# Altium integrated library Microchip PIC10.IntLib: 94 symbols (part 1 of 3)
Pins are listed as number, name and electrical type; pins without a type are passive.

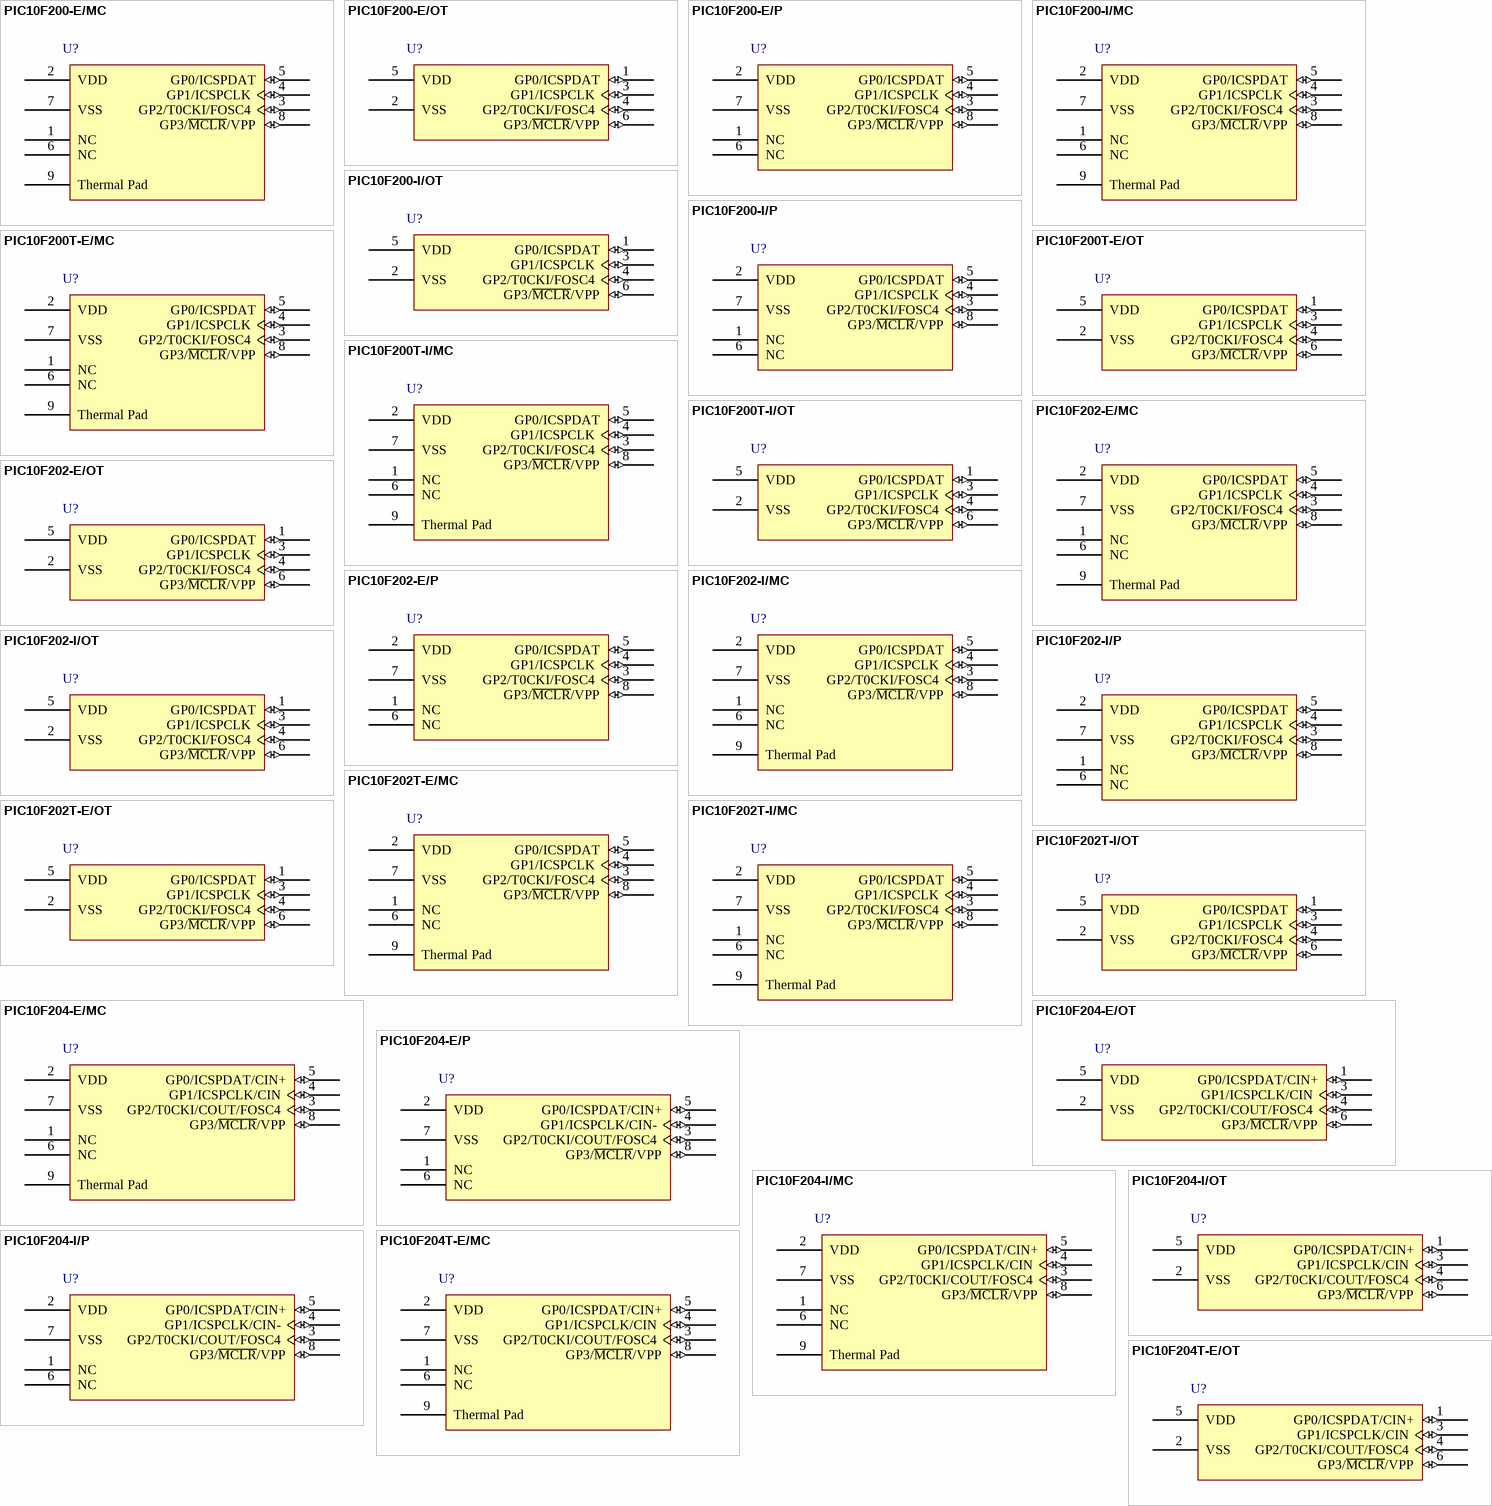
[diagram p0: symbols PIC10F200-E/MC to PIC10F204T-E/OT]

## PIC10F200-E/MC
designator U?
8-bit Flash Microcontroller, 256 (x12-Bit words) Program Memory, 16 Bytes Data Memory, 8-Pin DFN, Extended Temperature; Manufacturer: Microchip; PartNumber: PIC10F200-E/MC; DatasheetVersion: revD, Apr-2007; PackageVersion: C04-123C, 12/2012; PackageReference: DFN-MC8; PackageDescription: 8-Lead Plastic Dual Flat, 2 x 3 mm Body, 0.5 mm Pitch; ComponentLink1Description: Manufacturer URL; ComponentLink1URL: http://www.microchip.com/; ComponentLink2Description: Datasheet; ComponentLink2URL: http://ww1.microchip.com/downloads/en/DeviceDoc/41239D.pdf; ComponentLink3Description: Package Specification; ComponentLink3URL: http://www.microchip.com/stellent/groups/techpub_sg/documents/packagingspec/en012702.pdf
footprint MCHP-DFN-MC8_V (SON, 8-Leads, Body 3x2mm, Pitch 0.5mm, Thermal Pad 1.45x1.75mm)
pins: 1 NC, 2 VDD (power), 3 GP2/T0CKI/FOSC4 (io), 4 GP1/ICSPCLK (io), 5 GP0/ICSPDAT (io), 6 NC, 7 VSS (power), 8 GP3/~{MCLR}/VPP (io), 9 Thermal Pad

## PIC10F200-E/OT
designator U?
8-bit Flash Microcontroller, 256 (x12-Bit words) Program Memory, 16 Bytes Data Memory, 6-Pin SOT-23, Extended Temperature; Manufacturer: Microchip; PartNumber: PIC10F200-E/OT; DatasheetVersion: revD, Apr-2007; PackageVersion: C04-028B, 12/2012; PackageReference: SOT-23-OT6; PackageDescription: 6-Lead Plastic Small Outline Transistor, 2.9 x 1.55 mm Body, 0.95 mm Pitch; ComponentLink1Description: Manufacturer URL; ComponentLink1URL: http://www.microchip.com/; ComponentLink2Description: Datasheet; ComponentLink2URL: http://ww1.microchip.com/downloads/en/DeviceDoc/41239D.pdf; ComponentLink3Description: Package Specification; ComponentLink3URL: http://www.microchip.com/stellent/groups/techpub_sg/documents/packagingspec/en012702.pdf
footprint MCHP-SOT-23-OT6_N (SOT23, 6-Leads, Body 2.9x1.55mm, Pitch 0.95mm, IPC Medium Density)
footprint MCHP-SOT-23-OT6_L (SOT23, 6-Leads, Body 2.9x1.55mm, Pitch 0.95mm, IPC High Density)
footprint MCHP-SOT-23-OT6_M (SOT23, 6-Leads, Body 2.9x1.55mm, Pitch 0.95mm, IPC Low Density)
pins: 1 GP0/ICSPDAT (io), 2 VSS (power), 3 GP1/ICSPCLK (io), 4 GP2/T0CKI/FOSC4 (io), 5 VDD (power), 6 GP3/~{MCLR}/VPP (io)

## PIC10F200-E/P
designator U?
8-bit Flash Microcontroller, 256 (x12-Bit words) Program Memory, 16 Bytes Data Memory, 8-Pin PDIP, Extended Temperature; Manufacturer: Microchip; PartNumber: PIC10F200-E/P; DatasheetVersion: revD, Apr-2007; PackageVersion: revBB, Aug-2009; PackageReference: PDIP300-P8; PackageDescription: 8-Lead Plastic Dual In-Line (P) - 300 mil Body [PDIP]; Code_JEDEC: MS-001; ComponentLink1Description: Manufacturer URL; ComponentLink1URL: http://www.microchip.com/; ComponentLink2Description: Datasheet; ComponentLink2URL: http://ww1.microchip.com/downloads/en/DeviceDoc/41239D.pdf; ComponentLink3Description: Package Specification; ComponentLink3URL: http://www.microchip.com/stellent/groups/techpub_sg/documents/packagingspec/en012702.pdf
footprint PDIP300-P8 (DIP, 8-Leads, Row Spacing 7.62mm, Pitch 2.54mm, Body 9.5x6.6mm)
pins: 1 NC, 2 VDD (power), 3 GP2/T0CKI/FOSC4 (io), 4 GP1/ICSPCLK (io), 5 GP0/ICSPDAT (io), 6 NC, 7 VSS (power), 8 GP3/~{MCLR}/VPP (io)

## PIC10F200-I/MC
designator U?
8-bit Flash Microcontroller, 256 (x12-Bit words) Program Memory, 16 Bytes Data Memory, 8-Pin DFN, Industrial Temperature; Manufacturer: Microchip; PartNumber: PIC10F200-I/MC; DatasheetVersion: revD, Apr-2007; PackageVersion: C04-123C, 12/2012; PackageReference: DFN-MC8; PackageDescription: 8-Lead Plastic Dual Flat, 2 x 3 mm Body, 0.5 mm Pitch; ComponentLink1Description: Manufacturer URL; ComponentLink1URL: http://www.microchip.com/; ComponentLink2Description: Datasheet; ComponentLink2URL: http://ww1.microchip.com/downloads/en/DeviceDoc/41239D.pdf; ComponentLink3Description: Package Specification; ComponentLink3URL: http://www.microchip.com/stellent/groups/techpub_sg/documents/packagingspec/en012702.pdf
footprint MCHP-DFN-MC8_V (SON, 8-Leads, Body 3x2mm, Pitch 0.5mm, Thermal Pad 1.45x1.75mm)
pins: 1 NC, 2 VDD (power), 3 GP2/T0CKI/FOSC4 (io), 4 GP1/ICSPCLK (io), 5 GP0/ICSPDAT (io), 6 NC, 7 VSS (power), 8 GP3/~{MCLR}/VPP (io), 9 Thermal Pad

## PIC10F200-I/OT
designator U?
8-bit Flash Microcontroller, 256 (x12-Bit words) Program Memory, 16 Bytes Data Memory, 6-Pin SOT-23, Industrial Temperature; Manufacturer: Microchip; PartNumber: PIC10F200-I/OT; DatasheetVersion: revD, Apr-2007; PackageVersion: C04-028B, 12/2012; PackageReference: SOT-23-OT6; PackageDescription: 6-Lead Plastic Small Outline Transistor, 2.9 x 1.55 mm Body, 0.95 mm Pitch; ComponentLink1Description: Manufacturer URL; ComponentLink1URL: http://www.microchip.com/; ComponentLink2Description: Datasheet; ComponentLink2URL: http://ww1.microchip.com/downloads/en/DeviceDoc/41239D.pdf; ComponentLink3Description: Package Specification; ComponentLink3URL: http://www.microchip.com/stellent/groups/techpub_sg/documents/packagingspec/en012702.pdf
footprint MCHP-SOT-23-OT6_N (SOT23, 6-Leads, Body 2.9x1.55mm, Pitch 0.95mm, IPC Medium Density)
footprint MCHP-SOT-23-OT6_L (SOT23, 6-Leads, Body 2.9x1.55mm, Pitch 0.95mm, IPC High Density)
footprint MCHP-SOT-23-OT6_M (SOT23, 6-Leads, Body 2.9x1.55mm, Pitch 0.95mm, IPC Low Density)
pins: 1 GP0/ICSPDAT (io), 2 VSS (power), 3 GP1/ICSPCLK (io), 4 GP2/T0CKI/FOSC4 (io), 5 VDD (power), 6 GP3/~{MCLR}/VPP (io)

## PIC10F200-I/P
designator U?
8-bit Flash Microcontroller, 256 (x12-Bit words) Program Memory, 16 Bytes Data Memory, 8-Pin PDIP, Industrial Temperature; Manufacturer: Microchip; PartNumber: PIC10F200-I/P; DatasheetVersion: revD, Apr-2007; PackageVersion: revBB, Aug-2009; PackageReference: PDIP300-P8; PackageDescription: 8-Lead Plastic Dual In-Line (P) - 300 mil Body [PDIP]; Code_JEDEC: MS-001; ComponentLink1Description: Manufacturer URL; ComponentLink1URL: http://www.microchip.com/; ComponentLink2Description: Datasheet; ComponentLink2URL: http://ww1.microchip.com/downloads/en/DeviceDoc/41239D.pdf; ComponentLink3Description: Package Specification; ComponentLink3URL: http://www.microchip.com/stellent/groups/techpub_sg/documents/packagingspec/en012702.pdf
footprint PDIP300-P8 (DIP, 8-Leads, Row Spacing 7.62mm, Pitch 2.54mm, Body 9.5x6.6mm)
pins: 1 NC, 2 VDD (power), 3 GP2/T0CKI/FOSC4 (io), 4 GP1/ICSPCLK (io), 5 GP0/ICSPDAT (io), 6 NC, 7 VSS (power), 8 GP3/~{MCLR}/VPP (io)

## PIC10F200T-E/MC
designator U?
8-bit Flash Microcontroller, 256 (x12-Bit words) Program Memory, 16 Bytes Data Memory, 8-Pin DFN, Extended Temperature, Tape and Reel; Manufacturer: Microchip; PartNumber: PIC10F200T-E/MC; DatasheetVersion: revD, Apr-2007; PackageVersion: C04-123C, 12/2012; PackageReference: DFN-MC8; PackageDescription: 8-Lead Plastic Dual Flat, 2 x 3 mm Body, 0.5 mm Pitch; ComponentLink1Description: Manufacturer URL; ComponentLink1URL: http://www.microchip.com/; ComponentLink2Description: Datasheet; ComponentLink2URL: http://ww1.microchip.com/downloads/en/DeviceDoc/41239D.pdf; ComponentLink3Description: Package Specification; ComponentLink3URL: http://www.microchip.com/stellent/groups/techpub_sg/documents/packagingspec/en012702.pdf
footprint MCHP-DFN-MC8_V (SON, 8-Leads, Body 3x2mm, Pitch 0.5mm, Thermal Pad 1.45x1.75mm)
pins: 1 NC, 2 VDD (power), 3 GP2/T0CKI/FOSC4 (io), 4 GP1/ICSPCLK (io), 5 GP0/ICSPDAT (io), 6 NC, 7 VSS (power), 8 GP3/~{MCLR}/VPP (io), 9 Thermal Pad

## PIC10F200T-E/OT
designator U?
8-bit Flash Microcontroller, 256 (x12-Bit words) Program Memory, 16 Bytes Data Memory, 6-Pin SOT-23, Extended Temperature, Tape and Reel; Manufacturer: Microchip; PartNumber: PIC10F200T-E/OT; DatasheetVersion: revD, Apr-2007; PackageVersion: C04-028B, 12/2012; PackageReference: SOT-23-OT6; PackageDescription: 6-Lead Plastic Small Outline Transistor, 2.9 x 1.55 mm Body, 0.95 mm Pitch; ComponentLink1Description: Manufacturer URL; ComponentLink1URL: http://www.microchip.com/; ComponentLink2Description: Datasheet; ComponentLink2URL: http://ww1.microchip.com/downloads/en/DeviceDoc/41239D.pdf; ComponentLink3Description: Package Specification; ComponentLink3URL: http://www.microchip.com/stellent/groups/techpub_sg/documents/packagingspec/en012702.pdf
footprint MCHP-SOT-23-OT6_N (SOT23, 6-Leads, Body 2.9x1.55mm, Pitch 0.95mm, IPC Medium Density)
footprint MCHP-SOT-23-OT6_L (SOT23, 6-Leads, Body 2.9x1.55mm, Pitch 0.95mm, IPC High Density)
footprint MCHP-SOT-23-OT6_M (SOT23, 6-Leads, Body 2.9x1.55mm, Pitch 0.95mm, IPC Low Density)
pins: 1 GP0/ICSPDAT (io), 2 VSS (power), 3 GP1/ICSPCLK (io), 4 GP2/T0CKI/FOSC4 (io), 5 VDD (power), 6 GP3/~{MCLR}/VPP (io)

## PIC10F200T-I/MC
designator U?
8-bit Flash Microcontroller, 256 (x12-Bit words) Program Memory, 16 Bytes Data Memory, 8-Pin DFN, Industrial Temperature, Tape and Reel; Manufacturer: Microchip; PartNumber: PIC10F200T-I/MC; DatasheetVersion: revD, Apr-2007; PackageVersion: C04-123C, 12/2012; PackageReference: DFN-MC8; PackageDescription: 8-Lead Plastic Dual Flat, 2 x 3 mm Body, 0.5 mm Pitch; ComponentLink1Description: Manufacturer URL; ComponentLink1URL: http://www.microchip.com/; ComponentLink2Description: Datasheet; ComponentLink2URL: http://ww1.microchip.com/downloads/en/DeviceDoc/41239D.pdf; ComponentLink3Description: Package Specification; ComponentLink3URL: http://www.microchip.com/stellent/groups/techpub_sg/documents/packagingspec/en012702.pdf
footprint MCHP-DFN-MC8_V (SON, 8-Leads, Body 3x2mm, Pitch 0.5mm, Thermal Pad 1.45x1.75mm)
pins: 1 NC, 2 VDD (power), 3 GP2/T0CKI/FOSC4 (io), 4 GP1/ICSPCLK (io), 5 GP0/ICSPDAT (io), 6 NC, 7 VSS (power), 8 GP3/~{MCLR}/VPP (io), 9 Thermal Pad

## PIC10F200T-I/OT
designator U?
8-bit Flash Microcontroller, 256 (x12-Bit words) Program Memory, 16 Bytes Data Memory, 6-Pin SOT-23, Industrial Temperature, Tape and Reel; Manufacturer: Microchip; PartNumber: PIC10F200T-I/OT; DatasheetVersion: revD, Apr-2007; PackageVersion: C04-028B, 12/2012; PackageReference: SOT-23-OT6; PackageDescription: 6-Lead Plastic Small Outline Transistor, 2.9 x 1.55 mm Body, 0.95 mm Pitch; ComponentLink1Description: Manufacturer URL; ComponentLink1URL: http://www.microchip.com/; ComponentLink2Description: Datasheet; ComponentLink2URL: http://ww1.microchip.com/downloads/en/DeviceDoc/41239D.pdf; ComponentLink3Description: Package Specification; ComponentLink3URL: http://www.microchip.com/stellent/groups/techpub_sg/documents/packagingspec/en012702.pdf
footprint MCHP-SOT-23-OT6_N (SOT23, 6-Leads, Body 2.9x1.55mm, Pitch 0.95mm, IPC Medium Density)
footprint MCHP-SOT-23-OT6_L (SOT23, 6-Leads, Body 2.9x1.55mm, Pitch 0.95mm, IPC High Density)
footprint MCHP-SOT-23-OT6_M (SOT23, 6-Leads, Body 2.9x1.55mm, Pitch 0.95mm, IPC Low Density)
pins: 1 GP0/ICSPDAT (io), 2 VSS (power), 3 GP1/ICSPCLK (io), 4 GP2/T0CKI/FOSC4 (io), 5 VDD (power), 6 GP3/~{MCLR}/VPP (io)

## PIC10F202-E/MC
designator U?
8-bit Flash Microcontroller, 512 (x12-Bit words) Program Memory, 24 Bytes Data Memory, 8-Pin DFN, Extended Temperature; Manufacturer: Microchip; PartNumber: PIC10F202-E/MC; DatasheetVersion: revD, Apr-2007; PackageVersion: C04-123C, 12/2012; PackageReference: DFN-MC8; PackageDescription: 8-Lead Plastic Dual Flat, 2 x 3 mm Body, 0.5 mm Pitch; ComponentLink1Description: Manufacturer URL; ComponentLink1URL: http://www.microchip.com/; ComponentLink2Description: Datasheet; ComponentLink2URL: http://ww1.microchip.com/downloads/en/DeviceDoc/41239D.pdf; ComponentLink3Description: Package Specification; ComponentLink3URL: http://www.microchip.com/stellent/groups/techpub_sg/documents/packagingspec/en012702.pdf
footprint MCHP-DFN-MC8_V (SON, 8-Leads, Body 3x2mm, Pitch 0.5mm, Thermal Pad 1.45x1.75mm)
pins: 1 NC, 2 VDD (power), 3 GP2/T0CKI/FOSC4 (io), 4 GP1/ICSPCLK (io), 5 GP0/ICSPDAT (io), 6 NC, 7 VSS (power), 8 GP3/~{MCLR}/VPP (io), 9 Thermal Pad

## PIC10F202-E/OT
designator U?
8-bit Flash Microcontroller, 512 (x12-Bit words) Program Memory, 24 Bytes Data Memory, 6-Pin SOT-23, Extended Temperature; Manufacturer: Microchip; PartNumber: PIC10F202-E/OT; DatasheetVersion: revD, Apr-2007; PackageVersion: C04-028B, 12/2012; PackageReference: SOT-23-OT6; PackageDescription: 6-Lead Plastic Small Outline Transistor, 2.9 x 1.55 mm Body, 0.95 mm Pitch; ComponentLink1Description: Manufacturer URL; ComponentLink1URL: http://www.microchip.com/; ComponentLink2Description: Datasheet; ComponentLink2URL: http://ww1.microchip.com/downloads/en/DeviceDoc/41239D.pdf; ComponentLink3Description: Package Specification; ComponentLink3URL: http://www.microchip.com/stellent/groups/techpub_sg/documents/packagingspec/en012702.pdf
footprint MCHP-SOT-23-OT6_N (SOT23, 6-Leads, Body 2.9x1.55mm, Pitch 0.95mm, IPC Medium Density)
footprint MCHP-SOT-23-OT6_L (SOT23, 6-Leads, Body 2.9x1.55mm, Pitch 0.95mm, IPC High Density)
footprint MCHP-SOT-23-OT6_M (SOT23, 6-Leads, Body 2.9x1.55mm, Pitch 0.95mm, IPC Low Density)
pins: 1 GP0/ICSPDAT (io), 2 VSS (power), 3 GP1/ICSPCLK (io), 4 GP2/T0CKI/FOSC4 (io), 5 VDD (power), 6 GP3/~{MCLR}/VPP (io)

## PIC10F202-E/P
designator U?
8-bit Flash Microcontroller, 512 (x12-Bit words) Program Memory, 24 Bytes Data Memory, 8-Pin PDIP, Extended Temperature; Manufacturer: Microchip; PartNumber: PIC10F202-E/P; DatasheetVersion: revD, Apr-2007; PackageVersion: revBB, Aug-2009; PackageReference: PDIP300-P8; PackageDescription: 8-Lead Plastic Dual In-Line (P) - 300 mil Body [PDIP]; Code_JEDEC: MS-001; ComponentLink1Description: Manufacturer URL; ComponentLink1URL: http://www.microchip.com/; ComponentLink2Description: Datasheet; ComponentLink2URL: http://ww1.microchip.com/downloads/en/DeviceDoc/41239D.pdf; ComponentLink3Description: Package Specification; ComponentLink3URL: http://www.microchip.com/stellent/groups/techpub_sg/documents/packagingspec/en012702.pdf
footprint PDIP300-P8 (DIP, 8-Leads, Row Spacing 7.62mm, Pitch 2.54mm, Body 9.5x6.6mm)
pins: 1 NC, 2 VDD (power), 3 GP2/T0CKI/FOSC4 (io), 4 GP1/ICSPCLK (io), 5 GP0/ICSPDAT (io), 6 NC, 7 VSS (power), 8 GP3/~{MCLR}/VPP (io)

## PIC10F202-I/MC
designator U?
8-bit Flash Microcontroller, 512 (x12-Bit words) Program Memory, 24 Bytes Data Memory, 8-Pin DFN, Industrial Temperature; Manufacturer: Microchip; PartNumber: PIC10F202-I/MC; DatasheetVersion: revD, Apr-2007; PackageVersion: C04-123C, 12/2012; PackageReference: DFN-MC8; PackageDescription: 8-Lead Plastic Dual Flat, 2 x 3 mm Body, 0.5 mm Pitch; ComponentLink1Description: Manufacturer URL; ComponentLink1URL: http://www.microchip.com/; ComponentLink2Description: Datasheet; ComponentLink2URL: http://ww1.microchip.com/downloads/en/DeviceDoc/41239D.pdf; ComponentLink3Description: Package Specification; ComponentLink3URL: http://www.microchip.com/stellent/groups/techpub_sg/documents/packagingspec/en012702.pdf
footprint MCHP-DFN-MC8_V (SON, 8-Leads, Body 3x2mm, Pitch 0.5mm, Thermal Pad 1.45x1.75mm)
pins: 1 NC, 2 VDD (power), 3 GP2/T0CKI/FOSC4 (io), 4 GP1/ICSPCLK (io), 5 GP0/ICSPDAT (io), 6 NC, 7 VSS (power), 8 GP3/~{MCLR}/VPP (io), 9 Thermal Pad

## PIC10F202-I/OT
designator U?
8-bit Flash Microcontroller, 512 (x12-Bit words) Program Memory, 24 Bytes Data Memory, 6-Pin SOT-23, Industrial Temperature; Manufacturer: Microchip; PartNumber: PIC10F202-I/OT; DatasheetVersion: revD, Apr-2007; PackageVersion: C04-028B, 12/2012; PackageReference: SOT-23-OT6; PackageDescription: 6-Lead Plastic Small Outline Transistor, 2.9 x 1.55 mm Body, 0.95 mm Pitch; ComponentLink1Description: Manufacturer URL; ComponentLink1URL: http://www.microchip.com/; ComponentLink2Description: Datasheet; ComponentLink2URL: http://ww1.microchip.com/downloads/en/DeviceDoc/41239D.pdf; ComponentLink3Description: Package Specification; ComponentLink3URL: http://www.microchip.com/stellent/groups/techpub_sg/documents/packagingspec/en012702.pdf
footprint MCHP-SOT-23-OT6_N (SOT23, 6-Leads, Body 2.9x1.55mm, Pitch 0.95mm, IPC Medium Density)
footprint MCHP-SOT-23-OT6_L (SOT23, 6-Leads, Body 2.9x1.55mm, Pitch 0.95mm, IPC High Density)
footprint MCHP-SOT-23-OT6_M (SOT23, 6-Leads, Body 2.9x1.55mm, Pitch 0.95mm, IPC Low Density)
pins: 1 GP0/ICSPDAT (io), 2 VSS (power), 3 GP1/ICSPCLK (io), 4 GP2/T0CKI/FOSC4 (io), 5 VDD (power), 6 GP3/~{MCLR}/VPP (io)

## PIC10F202-I/P
designator U?
8-bit Flash Microcontroller, 512 (x12-Bit words) Program Memory, 24 Bytes Data Memory, 8-Pin PDIP, Industrial Temperature; Manufacturer: Microchip; PartNumber: PIC10F202-I/P; DatasheetVersion: revD, Apr-2007; PackageVersion: revBB, Aug-2009; PackageReference: PDIP300-P8; PackageDescription: 8-Lead Plastic Dual In-Line (P) - 300 mil Body [PDIP]; Code_JEDEC: MS-001; ComponentLink1Description: Manufacturer URL; ComponentLink1URL: http://www.microchip.com/; ComponentLink2Description: Datasheet; ComponentLink2URL: http://ww1.microchip.com/downloads/en/DeviceDoc/41239D.pdf; ComponentLink3Description: Package Specification; ComponentLink3URL: http://www.microchip.com/stellent/groups/techpub_sg/documents/packagingspec/en012702.pdf
footprint PDIP300-P8 (DIP, 8-Leads, Row Spacing 7.62mm, Pitch 2.54mm, Body 9.5x6.6mm)
pins: 1 NC, 2 VDD (power), 3 GP2/T0CKI/FOSC4 (io), 4 GP1/ICSPCLK (io), 5 GP0/ICSPDAT (io), 6 NC, 7 VSS (power), 8 GP3/~{MCLR}/VPP (io)

## PIC10F202T-E/MC
designator U?
8-bit Flash Microcontroller, 512 (x12-Bit words) Program Memory, 24 Bytes Data Memory, 8-Pin DFN, Extended Temperature, Tape and Reel; Manufacturer: Microchip; PartNumber: PIC10F202T-E/MC; DatasheetVersion: revD, Apr-2007; PackageVersion: C04-123C, 12/2012; PackageReference: DFN-MC8; PackageDescription: 8-Lead Plastic Dual Flat, 2 x 3 mm Body, 0.5 mm Pitch; ComponentLink1Description: Manufacturer URL; ComponentLink1URL: http://www.microchip.com/; ComponentLink2Description: Datasheet; ComponentLink2URL: http://ww1.microchip.com/downloads/en/DeviceDoc/41239D.pdf; ComponentLink3Description: Package Specification; ComponentLink3URL: http://www.microchip.com/stellent/groups/techpub_sg/documents/packagingspec/en012702.pdf
footprint MCHP-DFN-MC8_V (SON, 8-Leads, Body 3x2mm, Pitch 0.5mm, Thermal Pad 1.45x1.75mm)
pins: 1 NC, 2 VDD (power), 3 GP2/T0CKI/FOSC4 (io), 4 GP1/ICSPCLK (io), 5 GP0/ICSPDAT (io), 6 NC, 7 VSS (power), 8 GP3/~{MCLR}/VPP (io), 9 Thermal Pad

## PIC10F202T-E/OT
designator U?
8-bit Flash Microcontroller, 512 (x12-Bit words) Program Memory, 24 Bytes Data Memory, 6-Pin SOT-23, Extended Temperature, Tape and Reel; Manufacturer: Microchip; PartNumber: PIC10F202T-E/OT; DatasheetVersion: revD, Apr-2007; PackageVersion: C04-028B, 12/2012; PackageReference: SOT-23-OT6; PackageDescription: 6-Lead Plastic Small Outline Transistor, 2.9 x 1.55 mm Body, 0.95 mm Pitch; ComponentLink1Description: Manufacturer URL; ComponentLink1URL: http://www.microchip.com/; ComponentLink2Description: Datasheet; ComponentLink2URL: http://ww1.microchip.com/downloads/en/DeviceDoc/41239D.pdf; ComponentLink3Description: Package Specification; ComponentLink3URL: http://www.microchip.com/stellent/groups/techpub_sg/documents/packagingspec/en012702.pdf
footprint MCHP-SOT-23-OT6_N (SOT23, 6-Leads, Body 2.9x1.55mm, Pitch 0.95mm, IPC Medium Density)
footprint MCHP-SOT-23-OT6_L (SOT23, 6-Leads, Body 2.9x1.55mm, Pitch 0.95mm, IPC High Density)
footprint MCHP-SOT-23-OT6_M (SOT23, 6-Leads, Body 2.9x1.55mm, Pitch 0.95mm, IPC Low Density)
pins: 1 GP0/ICSPDAT (io), 2 VSS (power), 3 GP1/ICSPCLK (io), 4 GP2/T0CKI/FOSC4 (io), 5 VDD (power), 6 GP3/~{MCLR}/VPP (io)

## PIC10F202T-I/MC
designator U?
8-bit Flash Microcontroller, 512 (x12-Bit words) Program Memory, 24 Bytes Data Memory, 8-Pin DFN, Industrial Temperature, Tape and Reel; Manufacturer: Microchip; PartNumber: PIC10F202T-I/MC; DatasheetVersion: revD, Apr-2007; PackageVersion: C04-123C, 12/2012; PackageReference: DFN-MC8; PackageDescription: 8-Lead Plastic Dual Flat, 2 x 3 mm Body, 0.5 mm Pitch; ComponentLink1Description: Manufacturer URL; ComponentLink1URL: http://www.microchip.com/; ComponentLink2Description: Datasheet; ComponentLink2URL: http://ww1.microchip.com/downloads/en/DeviceDoc/41239D.pdf; ComponentLink3Description: Package Specification; ComponentLink3URL: http://www.microchip.com/stellent/groups/techpub_sg/documents/packagingspec/en012702.pdf
footprint MCHP-DFN-MC8_V (SON, 8-Leads, Body 3x2mm, Pitch 0.5mm, Thermal Pad 1.45x1.75mm)
pins: 1 NC, 2 VDD (power), 3 GP2/T0CKI/FOSC4 (io), 4 GP1/ICSPCLK (io), 5 GP0/ICSPDAT (io), 6 NC, 7 VSS (power), 8 GP3/~{MCLR}/VPP (io), 9 Thermal Pad

## PIC10F202T-I/OT
designator U?
8-bit Flash Microcontroller, 512 (x12-Bit words) Program Memory, 24 Bytes Data Memory, 6-Pin SOT-23, Industrial Temperature, Tape and Reel; Manufacturer: Microchip; PartNumber: PIC10F202T-I/OT; DatasheetVersion: revD, Apr-2007; PackageVersion: C04-028B, 12/2012; PackageReference: SOT-23-OT6; PackageDescription: 6-Lead Plastic Small Outline Transistor, 2.9 x 1.55 mm Body, 0.95 mm Pitch; ComponentLink1Description: Manufacturer URL; ComponentLink1URL: http://www.microchip.com/; ComponentLink2Description: Datasheet; ComponentLink2URL: http://ww1.microchip.com/downloads/en/DeviceDoc/41239D.pdf; ComponentLink3Description: Package Specification; ComponentLink3URL: http://www.microchip.com/stellent/groups/techpub_sg/documents/packagingspec/en012702.pdf
footprint MCHP-SOT-23-OT6_N (SOT23, 6-Leads, Body 2.9x1.55mm, Pitch 0.95mm, IPC Medium Density)
footprint MCHP-SOT-23-OT6_L (SOT23, 6-Leads, Body 2.9x1.55mm, Pitch 0.95mm, IPC High Density)
footprint MCHP-SOT-23-OT6_M (SOT23, 6-Leads, Body 2.9x1.55mm, Pitch 0.95mm, IPC Low Density)
pins: 1 GP0/ICSPDAT (io), 2 VSS (power), 3 GP1/ICSPCLK (io), 4 GP2/T0CKI/FOSC4 (io), 5 VDD (power), 6 GP3/~{MCLR}/VPP (io)

## PIC10F204-E/MC
designator U?
8-bit Flash Microcontroller, 256 (x12-Bit words) Program Memory, 16 Bytes Data Memory, 8-Pin DFN, Extended Temperature; Manufacturer: Microchip; PartNumber: PIC10F204-E/MC; DatasheetVersion: revD, Apr-2007; PackageVersion: C04-123C, 12/2012; PackageReference: DFN-MC8; PackageDescription: 8-Lead Plastic Dual Flat, 2 x 3 mm Body, 0.5 mm Pitch; ComponentLink1Description: Manufacturer URL; ComponentLink1URL: http://www.microchip.com/; ComponentLink2Description: Datasheet; ComponentLink2URL: http://ww1.microchip.com/downloads/en/DeviceDoc/41239D.pdf; ComponentLink3Description: Package Specification; ComponentLink3URL: http://www.microchip.com/stellent/groups/techpub_sg/documents/packagingspec/en012702.pdf
footprint MCHP-DFN-MC8_V (SON, 8-Leads, Body 3x2mm, Pitch 0.5mm, Thermal Pad 1.45x1.75mm)
pins: 1 NC, 2 VDD (power), 3 GP2/T0CKI/COUT/FOSC4 (io), 4 GP1/ICSPCLK/CIN (io), 5 GP0/ICSPDAT/CIN+ (io), 6 NC, 7 VSS (power), 8 GP3/~{MCLR}/VPP (io), 9 Thermal Pad

## PIC10F204-E/OT
designator U?
8-bit Flash Microcontroller, 256 (x12-Bit words) Program Memory, 16 Bytes Data Memory, 6-Pin SOT-23, Extended Temperature; Manufacturer: Microchip; PartNumber: PIC10F204-E/OT; DatasheetVersion: revD, Apr-2007; PackageVersion: C04-028B, 12/2012; PackageReference: SOT-23-OT6; PackageDescription: 6-Lead Plastic Small Outline Transistor, 2.9 x 1.55 mm Body, 0.95 mm Pitch; ComponentLink1Description: Manufacturer URL; ComponentLink1URL: http://www.microchip.com/; ComponentLink2Description: Datasheet; ComponentLink2URL: http://ww1.microchip.com/downloads/en/DeviceDoc/41239D.pdf; ComponentLink3Description: Package Specification; ComponentLink3URL: http://www.microchip.com/stellent/groups/techpub_sg/documents/packagingspec/en012702.pdf
footprint MCHP-SOT-23-OT6_N (SOT23, 6-Leads, Body 2.9x1.55mm, Pitch 0.95mm, IPC Medium Density)
footprint MCHP-SOT-23-OT6_L (SOT23, 6-Leads, Body 2.9x1.55mm, Pitch 0.95mm, IPC High Density)
footprint MCHP-SOT-23-OT6_M (SOT23, 6-Leads, Body 2.9x1.55mm, Pitch 0.95mm, IPC Low Density)
pins: 1 GP0/ICSPDAT/CIN+ (io), 2 VSS (power), 3 GP1/ICSPCLK/CIN (io), 4 GP2/T0CKI/COUT/FOSC4 (io), 5 VDD (power), 6 GP3/~{MCLR}/VPP (io)

## PIC10F204-E/P
designator U?
8-bit Flash Microcontroller, 256 (x12-Bit words) Program Memory, 16 Bytes Data Memory, 8-Pin PDIP, Extended Temperature; Manufacturer: Microchip; PartNumber: PIC10F204-E/P; DatasheetVersion: revD, Apr-2007; PackageVersion: revBB, Aug-2009; PackageReference: PDIP300-P8; PackageDescription: 8-Lead Plastic Dual In-Line (P) - 300 mil Body [PDIP]; Code_JEDEC: MS-001; ComponentLink1Description: Manufacturer URL; ComponentLink1URL: http://www.microchip.com/; ComponentLink2Description: Datasheet; ComponentLink2URL: http://ww1.microchip.com/downloads/en/DeviceDoc/41239D.pdf; ComponentLink3Description: Package Specification; ComponentLink3URL: http://www.microchip.com/stellent/groups/techpub_sg/documents/packagingspec/en012702.pdf
footprint PDIP300-P8 (DIP, 8-Leads, Row Spacing 7.62mm, Pitch 2.54mm, Body 9.5x6.6mm)
pins: 1 NC, 2 VDD (power), 3 GP2/T0CKI/COUT/FOSC4 (io), 4 GP1/ICSPCLK/CIN- (io), 5 GP0/ICSPDAT/CIN+ (io), 6 NC, 7 VSS (power), 8 GP3/~{MCLR}/VPP (io)

## PIC10F204-I/MC
designator U?
8-bit Flash Microcontroller, 256 (x12-Bit words) Program Memory, 16 Bytes Data Memory, 8-Pin DFN, Industrial Temperature; Manufacturer: Microchip; PartNumber: PIC10F204-I/MC; DatasheetVersion: revD, Apr-2007; PackageVersion: C04-123C, 12/2012; PackageReference: DFN-MC8; PackageDescription: 8-Lead Plastic Dual Flat, 2 x 3 mm Body, 0.5 mm Pitch; ComponentLink1Description: Manufacturer URL; ComponentLink1URL: http://www.microchip.com/; ComponentLink2Description: Datasheet; ComponentLink2URL: http://ww1.microchip.com/downloads/en/DeviceDoc/41239D.pdf; ComponentLink3Description: Package Specification; ComponentLink3URL: http://www.microchip.com/stellent/groups/techpub_sg/documents/packagingspec/en012702.pdf
footprint MCHP-DFN-MC8_V (SON, 8-Leads, Body 3x2mm, Pitch 0.5mm, Thermal Pad 1.45x1.75mm)
pins: 1 NC, 2 VDD (power), 3 GP2/T0CKI/COUT/FOSC4 (io), 4 GP1/ICSPCLK/CIN (io), 5 GP0/ICSPDAT/CIN+ (io), 6 NC, 7 VSS (power), 8 GP3/~{MCLR}/VPP (io), 9 Thermal Pad

## PIC10F204-I/OT
designator U?
8-bit Flash Microcontroller, 256 (x12-Bit words) Program Memory, 16 Bytes Data Memory, 6-Pin SOT-23, Industrial Temperature; Manufacturer: Microchip; PartNumber: PIC10F204-I/OT; DatasheetVersion: revD, Apr-2007; PackageVersion: C04-028B, 12/2012; PackageReference: SOT-23-OT6; PackageDescription: 6-Lead Plastic Small Outline Transistor, 2.9 x 1.55 mm Body, 0.95 mm Pitch; ComponentLink1Description: Manufacturer URL; ComponentLink1URL: http://www.microchip.com/; ComponentLink2Description: Datasheet; ComponentLink2URL: http://ww1.microchip.com/downloads/en/DeviceDoc/41239D.pdf; ComponentLink3Description: Package Specification; ComponentLink3URL: http://www.microchip.com/stellent/groups/techpub_sg/documents/packagingspec/en012702.pdf
footprint MCHP-SOT-23-OT6_N (SOT23, 6-Leads, Body 2.9x1.55mm, Pitch 0.95mm, IPC Medium Density)
footprint MCHP-SOT-23-OT6_L (SOT23, 6-Leads, Body 2.9x1.55mm, Pitch 0.95mm, IPC High Density)
footprint MCHP-SOT-23-OT6_M (SOT23, 6-Leads, Body 2.9x1.55mm, Pitch 0.95mm, IPC Low Density)
pins: 1 GP0/ICSPDAT/CIN+ (io), 2 VSS (power), 3 GP1/ICSPCLK/CIN (io), 4 GP2/T0CKI/COUT/FOSC4 (io), 5 VDD (power), 6 GP3/~{MCLR}/VPP (io)

## PIC10F204-I/P
designator U?
8-bit Flash Microcontroller, 256 (x12-Bit words) Program Memory, 16 Bytes Data Memory, 8-Pin PDIP, Industrial Temperature; Manufacturer: Microchip; PartNumber: PIC10F204-I/P; DatasheetVersion: revD, Apr-2007; PackageVersion: revBB, Aug-2009; PackageReference: PDIP300-P8; PackageDescription: 8-Lead Plastic Dual In-Line (P) - 300 mil Body [PDIP]; Code_JEDEC: MS-001; ComponentLink1Description: Manufacturer URL; ComponentLink1URL: http://www.microchip.com/; ComponentLink2Description: Datasheet; ComponentLink2URL: http://ww1.microchip.com/downloads/en/DeviceDoc/41239D.pdf; ComponentLink3Description: Package Specification; ComponentLink3URL: http://www.microchip.com/stellent/groups/techpub_sg/documents/packagingspec/en012702.pdf
footprint PDIP300-P8 (DIP, 8-Leads, Row Spacing 7.62mm, Pitch 2.54mm, Body 9.5x6.6mm)
pins: 1 NC, 2 VDD (power), 3 GP2/T0CKI/COUT/FOSC4 (io), 4 GP1/ICSPCLK/CIN- (io), 5 GP0/ICSPDAT/CIN+ (io), 6 NC, 7 VSS (power), 8 GP3/~{MCLR}/VPP (io)

## PIC10F204T-E/MC
designator U?
8-bit Flash Microcontroller, 256 (x12-Bit words) Program Memory, 16 Bytes Data Memory, 8-Pin DFN, Extended Temperature, Tape and Reel; Manufacturer: Microchip; PartNumber: PIC10F204T-E/MC; DatasheetVersion: revD, Apr-2007; PackageVersion: C04-123C, 12/2012; PackageReference: DFN-MC8; PackageDescription: 8-Lead Plastic Dual Flat, 2 x 3 mm Body, 0.5 mm Pitch; ComponentLink1Description: Manufacturer URL; ComponentLink1URL: http://www.microchip.com/; ComponentLink2Description: Datasheet; ComponentLink2URL: http://ww1.microchip.com/downloads/en/DeviceDoc/41239D.pdf; ComponentLink3Description: Package Specification; ComponentLink3URL: http://www.microchip.com/stellent/groups/techpub_sg/documents/packagingspec/en012702.pdf
footprint MCHP-DFN-MC8_V (SON, 8-Leads, Body 3x2mm, Pitch 0.5mm, Thermal Pad 1.45x1.75mm)
pins: 1 NC, 2 VDD (power), 3 GP2/T0CKI/COUT/FOSC4 (io), 4 GP1/ICSPCLK/CIN (io), 5 GP0/ICSPDAT/CIN+ (io), 6 NC, 7 VSS (power), 8 GP3/~{MCLR}/VPP (io), 9 Thermal Pad

## PIC10F204T-E/OT
designator U?
8-bit Flash Microcontroller, 256 (x12-Bit words) Program Memory, 16 Bytes Data Memory, 6-Pin SOT-23, Extended Temperature, Tape and Reel; Manufacturer: Microchip; PartNumber: PIC10F204T-E/OT; DatasheetVersion: revD, Apr-2007; PackageVersion: C04-028B, 12/2012; PackageReference: SOT-23-OT6; PackageDescription: 6-Lead Plastic Small Outline Transistor, 2.9 x 1.55 mm Body, 0.95 mm Pitch; ComponentLink1Description: Manufacturer URL; ComponentLink1URL: http://www.microchip.com/; ComponentLink2Description: Datasheet; ComponentLink2URL: http://ww1.microchip.com/downloads/en/DeviceDoc/41239D.pdf; ComponentLink3Description: Package Specification; ComponentLink3URL: http://www.microchip.com/stellent/groups/techpub_sg/documents/packagingspec/en012702.pdf
footprint MCHP-SOT-23-OT6_N (SOT23, 6-Leads, Body 2.9x1.55mm, Pitch 0.95mm, IPC Medium Density)
footprint MCHP-SOT-23-OT6_L (SOT23, 6-Leads, Body 2.9x1.55mm, Pitch 0.95mm, IPC High Density)
footprint MCHP-SOT-23-OT6_M (SOT23, 6-Leads, Body 2.9x1.55mm, Pitch 0.95mm, IPC Low Density)
pins: 1 GP0/ICSPDAT/CIN+ (io), 2 VSS (power), 3 GP1/ICSPCLK/CIN (io), 4 GP2/T0CKI/COUT/FOSC4 (io), 5 VDD (power), 6 GP3/~{MCLR}/VPP (io)

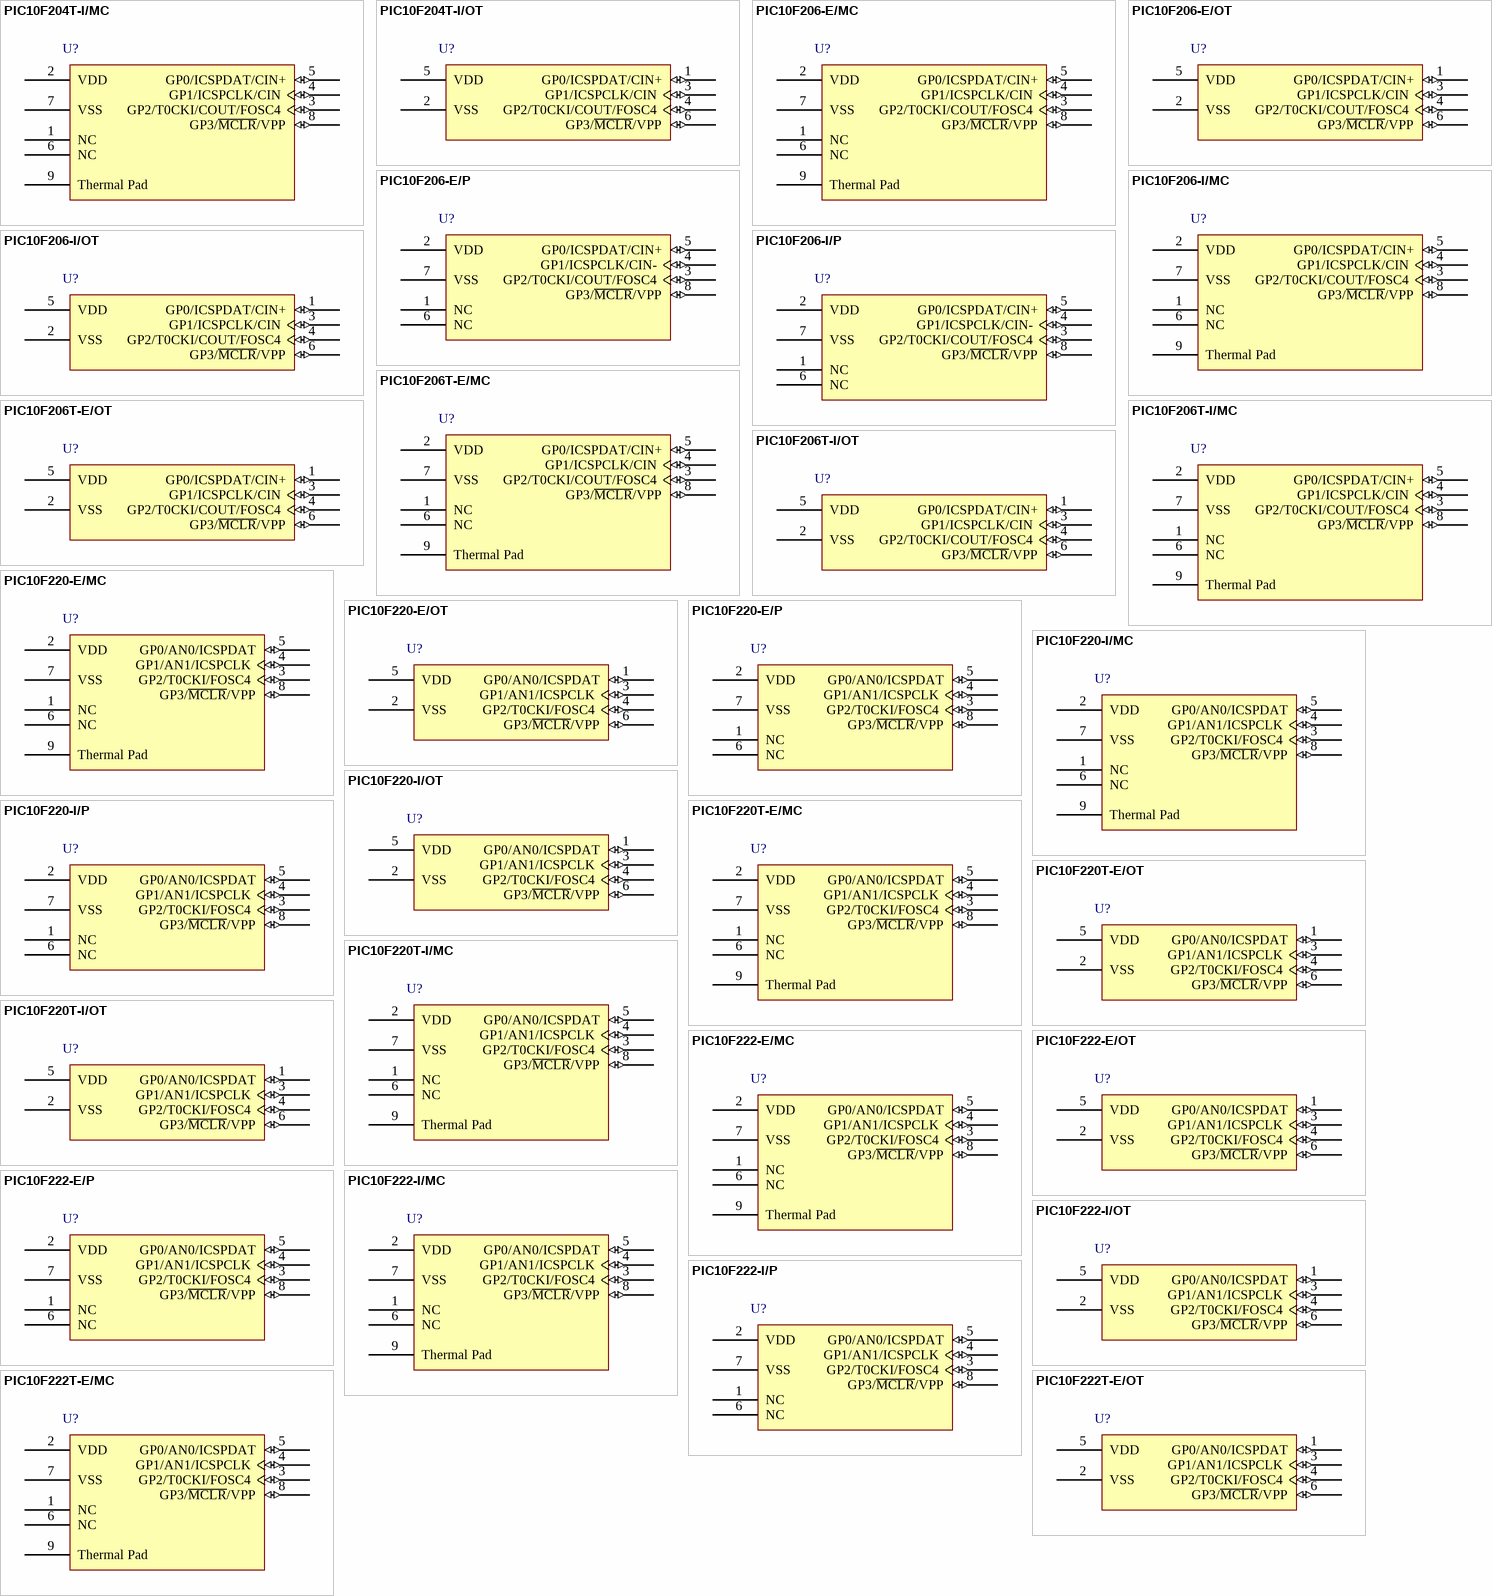
[diagram p1: symbols PIC10F204T-I/MC to PIC10F222T-E/OT]

## PIC10F204T-I/MC
designator U?
8-bit Flash Microcontroller, 256 (x12-Bit words) Program Memory, 16 Bytes Data Memory, 8-Pin DFN, Industrial Temperature, Tape and Reel; Manufacturer: Microchip; PartNumber: PIC10F204T-I/MC; DatasheetVersion: revD, Apr-2007; PackageVersion: C04-123C, 12/2012; PackageReference: DFN-MC8; PackageDescription: 8-Lead Plastic Dual Flat, 2 x 3 mm Body, 0.5 mm Pitch; ComponentLink1Description: Manufacturer URL; ComponentLink1URL: http://www.microchip.com/; ComponentLink2Description: Datasheet; ComponentLink2URL: http://ww1.microchip.com/downloads/en/DeviceDoc/41239D.pdf; ComponentLink3Description: Package Specification; ComponentLink3URL: http://www.microchip.com/stellent/groups/techpub_sg/documents/packagingspec/en012702.pdf
footprint MCHP-DFN-MC8_V (SON, 8-Leads, Body 3x2mm, Pitch 0.5mm, Thermal Pad 1.45x1.75mm)
pins: 1 NC, 2 VDD (power), 3 GP2/T0CKI/COUT/FOSC4 (io), 4 GP1/ICSPCLK/CIN (io), 5 GP0/ICSPDAT/CIN+ (io), 6 NC, 7 VSS (power), 8 GP3/~{MCLR}/VPP (io), 9 Thermal Pad

## PIC10F204T-I/OT
designator U?
8-bit Flash Microcontroller, 256 (x12-Bit words) Program Memory, 16 Bytes Data Memory, 6-Pin SOT-23, Industrial Temperature, Tape and Reel; Manufacturer: Microchip; PartNumber: PIC10F204T-I/OT; DatasheetVersion: revD, Apr-2007; PackageVersion: C04-028B, 12/2012; PackageReference: SOT-23-OT6; PackageDescription: 6-Lead Plastic Small Outline Transistor, 2.9 x 1.55 mm Body, 0.95 mm Pitch; ComponentLink1Description: Manufacturer URL; ComponentLink1URL: http://www.microchip.com/; ComponentLink2Description: Datasheet; ComponentLink2URL: http://ww1.microchip.com/downloads/en/DeviceDoc/41239D.pdf; ComponentLink3Description: Package Specification; ComponentLink3URL: http://www.microchip.com/stellent/groups/techpub_sg/documents/packagingspec/en012702.pdf
footprint MCHP-SOT-23-OT6_N (SOT23, 6-Leads, Body 2.9x1.55mm, Pitch 0.95mm, IPC Medium Density)
footprint MCHP-SOT-23-OT6_L (SOT23, 6-Leads, Body 2.9x1.55mm, Pitch 0.95mm, IPC High Density)
footprint MCHP-SOT-23-OT6_M (SOT23, 6-Leads, Body 2.9x1.55mm, Pitch 0.95mm, IPC Low Density)
pins: 1 GP0/ICSPDAT/CIN+ (io), 2 VSS (power), 3 GP1/ICSPCLK/CIN (io), 4 GP2/T0CKI/COUT/FOSC4 (io), 5 VDD (power), 6 GP3/~{MCLR}/VPP (io)

## PIC10F206-E/MC
designator U?
8-bit Flash Microcontroller, 512 (x12-Bit words) Program Memory, 24 Bytes Data Memory, 8-Pin DFN, Extended Temperature; Manufacturer: Microchip; PartNumber: PIC10F206-E/MC; DatasheetVersion: revD, Apr-2007; PackageVersion: C04-123C, 12/2012; PackageReference: DFN-MC8; PackageDescription: 8-Lead Plastic Dual Flat, 2 x 3 mm Body, 0.5 mm Pitch; ComponentLink1Description: Manufacturer URL; ComponentLink1URL: http://www.microchip.com/; ComponentLink2Description: Datasheet; ComponentLink2URL: http://ww1.microchip.com/downloads/en/DeviceDoc/41239D.pdf; ComponentLink3Description: Package Specification; ComponentLink3URL: http://www.microchip.com/stellent/groups/techpub_sg/documents/packagingspec/en012702.pdf
footprint MCHP-DFN-MC8_V (SON, 8-Leads, Body 3x2mm, Pitch 0.5mm, Thermal Pad 1.45x1.75mm)
pins: 1 NC, 2 VDD (power), 3 GP2/T0CKI/COUT/FOSC4 (io), 4 GP1/ICSPCLK/CIN (io), 5 GP0/ICSPDAT/CIN+ (io), 6 NC, 7 VSS (power), 8 GP3/~{MCLR}/VPP (io), 9 Thermal Pad

## PIC10F206-E/OT
designator U?
8-bit Flash Microcontroller, 512 (x12-Bit words) Program Memory, 24 Bytes Data Memory, 6-Pin SOT-23, Extended Temperature; Manufacturer: Microchip; PartNumber: PIC10F206-E/OT; DatasheetVersion: revD, Apr-2007; PackageVersion: C04-028B, 12/2012; PackageReference: SOT-23-OT6; PackageDescription: 6-Lead Plastic Small Outline Transistor, 2.9 x 1.55 mm Body, 0.95 mm Pitch; ComponentLink1Description: Manufacturer URL; ComponentLink1URL: http://www.microchip.com/; ComponentLink2Description: Datasheet; ComponentLink2URL: http://ww1.microchip.com/downloads/en/DeviceDoc/41239D.pdf; ComponentLink3Description: Package Specification; ComponentLink3URL: http://www.microchip.com/stellent/groups/techpub_sg/documents/packagingspec/en012702.pdf
footprint MCHP-SOT-23-OT6_N (SOT23, 6-Leads, Body 2.9x1.55mm, Pitch 0.95mm, IPC Medium Density)
footprint MCHP-SOT-23-OT6_L (SOT23, 6-Leads, Body 2.9x1.55mm, Pitch 0.95mm, IPC High Density)
footprint MCHP-SOT-23-OT6_M (SOT23, 6-Leads, Body 2.9x1.55mm, Pitch 0.95mm, IPC Low Density)
pins: 1 GP0/ICSPDAT/CIN+ (io), 2 VSS (power), 3 GP1/ICSPCLK/CIN (io), 4 GP2/T0CKI/COUT/FOSC4 (io), 5 VDD (power), 6 GP3/~{MCLR}/VPP (io)

## PIC10F206-E/P
designator U?
8-bit Flash Microcontroller, 512 (x12-Bit words) Program Memory, 24 Bytes Data Memory, 8-Pin PDIP, Extended Temperature; Manufacturer: Microchip; PartNumber: PIC10F206-E/P; DatasheetVersion: revD, Apr-2007; PackageVersion: revBB, Aug-2009; PackageReference: PDIP300-P8; PackageDescription: 8-Lead Plastic Dual In-Line (P) - 300 mil Body [PDIP]; Code_JEDEC: MS-001; ComponentLink1Description: Manufacturer URL; ComponentLink1URL: http://www.microchip.com/; ComponentLink2Description: Datasheet; ComponentLink2URL: http://ww1.microchip.com/downloads/en/DeviceDoc/41239D.pdf; ComponentLink3Description: Package Specification; ComponentLink3URL: http://www.microchip.com/stellent/groups/techpub_sg/documents/packagingspec/en012702.pdf
footprint PDIP300-P8 (DIP, 8-Leads, Row Spacing 7.62mm, Pitch 2.54mm, Body 9.5x6.6mm)
pins: 1 NC, 2 VDD (power), 3 GP2/T0CKI/COUT/FOSC4 (io), 4 GP1/ICSPCLK/CIN- (io), 5 GP0/ICSPDAT/CIN+ (io), 6 NC, 7 VSS (power), 8 GP3/~{MCLR}/VPP (io)

## PIC10F206-I/MC
designator U?
8-bit Flash Microcontroller, 512 (x12-Bit words) Program Memory, 24 Bytes Data Memory, 8-Pin DFN, Industrial Temperature; Manufacturer: Microchip; PartNumber: PIC10F206-I/MC; DatasheetVersion: revD, Apr-2007; PackageVersion: C04-123C, 12/2012; PackageReference: DFN-MC8; PackageDescription: 8-Lead Plastic Dual Flat, 2 x 3 mm Body, 0.5 mm Pitch; ComponentLink1Description: Manufacturer URL; ComponentLink1URL: http://www.microchip.com/; ComponentLink2Description: Datasheet; ComponentLink2URL: http://ww1.microchip.com/downloads/en/DeviceDoc/41239D.pdf; ComponentLink3Description: Package Specification; ComponentLink3URL: http://www.microchip.com/stellent/groups/techpub_sg/documents/packagingspec/en012702.pdf
footprint MCHP-DFN-MC8_V (SON, 8-Leads, Body 3x2mm, Pitch 0.5mm, Thermal Pad 1.45x1.75mm)
pins: 1 NC, 2 VDD (power), 3 GP2/T0CKI/COUT/FOSC4 (io), 4 GP1/ICSPCLK/CIN (io), 5 GP0/ICSPDAT/CIN+ (io), 6 NC, 7 VSS (power), 8 GP3/~{MCLR}/VPP (io), 9 Thermal Pad

## PIC10F206-I/OT
designator U?
8-bit Flash Microcontroller, 512 (x12-Bit words) Program Memory, 24 Bytes Data Memory, 6-Pin SOT-23, Industrial Temperature; Manufacturer: Microchip; PartNumber: PIC10F206-I/OT; DatasheetVersion: revD, Apr-2007; PackageVersion: C04-028B, 12/2012; PackageReference: SOT-23-OT6; PackageDescription: 6-Lead Plastic Small Outline Transistor, 2.9 x 1.55 mm Body, 0.95 mm Pitch; ComponentLink1Description: Manufacturer URL; ComponentLink1URL: http://www.microchip.com/; ComponentLink2Description: Datasheet; ComponentLink2URL: http://ww1.microchip.com/downloads/en/DeviceDoc/41239D.pdf; ComponentLink3Description: Package Specification; ComponentLink3URL: http://www.microchip.com/stellent/groups/techpub_sg/documents/packagingspec/en012702.pdf
footprint MCHP-SOT-23-OT6_N (SOT23, 6-Leads, Body 2.9x1.55mm, Pitch 0.95mm, IPC Medium Density)
footprint MCHP-SOT-23-OT6_L (SOT23, 6-Leads, Body 2.9x1.55mm, Pitch 0.95mm, IPC High Density)
footprint MCHP-SOT-23-OT6_M (SOT23, 6-Leads, Body 2.9x1.55mm, Pitch 0.95mm, IPC Low Density)
pins: 1 GP0/ICSPDAT/CIN+ (io), 2 VSS (power), 3 GP1/ICSPCLK/CIN (io), 4 GP2/T0CKI/COUT/FOSC4 (io), 5 VDD (power), 6 GP3/~{MCLR}/VPP (io)

## PIC10F206-I/P
designator U?
8-bit Flash Microcontroller, 512 (x12-Bit words) Program Memory, 24 Bytes Data Memory, 8-Pin PDIP, Industrial Temperature; Manufacturer: Microchip; PartNumber: PIC10F206-I/P; DatasheetVersion: revD, Apr-2007; PackageVersion: revBB, Aug-2009; PackageReference: PDIP300-P8; PackageDescription: 8-Lead Plastic Dual In-Line (P) - 300 mil Body [PDIP]; Code_JEDEC: MS-001; ComponentLink1Description: Manufacturer URL; ComponentLink1URL: http://www.microchip.com/; ComponentLink2Description: Datasheet; ComponentLink2URL: http://ww1.microchip.com/downloads/en/DeviceDoc/41239D.pdf; ComponentLink3Description: Package Specification; ComponentLink3URL: http://www.microchip.com/stellent/groups/techpub_sg/documents/packagingspec/en012702.pdf
footprint PDIP300-P8 (DIP, 8-Leads, Row Spacing 7.62mm, Pitch 2.54mm, Body 9.5x6.6mm)
pins: 1 NC, 2 VDD (power), 3 GP2/T0CKI/COUT/FOSC4 (io), 4 GP1/ICSPCLK/CIN- (io), 5 GP0/ICSPDAT/CIN+ (io), 6 NC, 7 VSS (power), 8 GP3/~{MCLR}/VPP (io)

## PIC10F206T-E/MC
designator U?
8-bit Flash Microcontroller, 512 (x12-Bit words) Program Memory, 24 Bytes Data Memory, 8-Pin DFN, Extended Temperature, Tape and Reel; Manufacturer: Microchip; PartNumber: PIC10F206T-E/MC; DatasheetVersion: revD, Apr-2007; PackageVersion: C04-123C, 12/2012; PackageReference: DFN-MC8; PackageDescription: 8-Lead Plastic Dual Flat, 2 x 3 mm Body, 0.5 mm Pitch; ComponentLink1Description: Manufacturer URL; ComponentLink1URL: http://www.microchip.com/; ComponentLink2Description: Datasheet; ComponentLink2URL: http://ww1.microchip.com/downloads/en/DeviceDoc/41239D.pdf; ComponentLink3Description: Package Specification; ComponentLink3URL: http://www.microchip.com/stellent/groups/techpub_sg/documents/packagingspec/en012702.pdf
footprint MCHP-DFN-MC8_V (SON, 8-Leads, Body 3x2mm, Pitch 0.5mm, Thermal Pad 1.45x1.75mm)
pins: 1 NC, 2 VDD (power), 3 GP2/T0CKI/COUT/FOSC4 (io), 4 GP1/ICSPCLK/CIN (io), 5 GP0/ICSPDAT/CIN+ (io), 6 NC, 7 VSS (power), 8 GP3/~{MCLR}/VPP (io), 9 Thermal Pad

## PIC10F206T-E/OT
designator U?
8-bit Flash Microcontroller, 512 (x12-Bit words) Program Memory, 24 Bytes Data Memory, 6-Pin SOT-23, Extended Temperature, Tape and Reel; Manufacturer: Microchip; PartNumber: PIC10F206T-E/OT; DatasheetVersion: revD, Apr-2007; PackageVersion: C04-028B, 12/2012; PackageReference: SOT-23-OT6; PackageDescription: 6-Lead Plastic Small Outline Transistor, 2.9 x 1.55 mm Body, 0.95 mm Pitch; ComponentLink1Description: Manufacturer URL; ComponentLink1URL: http://www.microchip.com/; ComponentLink2Description: Datasheet; ComponentLink2URL: http://ww1.microchip.com/downloads/en/DeviceDoc/41239D.pdf; ComponentLink3Description: Package Specification; ComponentLink3URL: http://www.microchip.com/stellent/groups/techpub_sg/documents/packagingspec/en012702.pdf
footprint MCHP-SOT-23-OT6_N (SOT23, 6-Leads, Body 2.9x1.55mm, Pitch 0.95mm, IPC Medium Density)
footprint MCHP-SOT-23-OT6_L (SOT23, 6-Leads, Body 2.9x1.55mm, Pitch 0.95mm, IPC High Density)
footprint MCHP-SOT-23-OT6_M (SOT23, 6-Leads, Body 2.9x1.55mm, Pitch 0.95mm, IPC Low Density)
pins: 1 GP0/ICSPDAT/CIN+ (io), 2 VSS (power), 3 GP1/ICSPCLK/CIN (io), 4 GP2/T0CKI/COUT/FOSC4 (io), 5 VDD (power), 6 GP3/~{MCLR}/VPP (io)

## PIC10F206T-I/MC
designator U?
8-bit Flash Microcontroller, 512 (x12-Bit words) Program Memory, 24 Bytes Data Memory, 8-Pin DFN, Industrial Temperature, Tape and Reel; Manufacturer: Microchip; PartNumber: PIC10F206T-I/MC; DatasheetVersion: revD, Apr-2007; PackageVersion: C04-123C, 12/2012; PackageReference: DFN-MC8; PackageDescription: 8-Lead Plastic Dual Flat, 2 x 3 mm Body, 0.5 mm Pitch; ComponentLink1Description: Manufacturer URL; ComponentLink1URL: http://www.microchip.com/; ComponentLink2Description: Datasheet; ComponentLink2URL: http://ww1.microchip.com/downloads/en/DeviceDoc/41239D.pdf; ComponentLink3Description: Package Specification; ComponentLink3URL: http://www.microchip.com/stellent/groups/techpub_sg/documents/packagingspec/en012702.pdf
footprint MCHP-DFN-MC8_V (SON, 8-Leads, Body 3x2mm, Pitch 0.5mm, Thermal Pad 1.45x1.75mm)
pins: 1 NC, 2 VDD (power), 3 GP2/T0CKI/COUT/FOSC4 (io), 4 GP1/ICSPCLK/CIN (io), 5 GP0/ICSPDAT/CIN+ (io), 6 NC, 7 VSS (power), 8 GP3/~{MCLR}/VPP (io), 9 Thermal Pad

## PIC10F206T-I/OT
designator U?
8-bit Flash Microcontroller, 512 (x12-Bit words) Program Memory, 24 Bytes Data Memory, 6-Pin SOT-23, Industrial Temperature, Tape and Reel; Manufacturer: Microchip; PartNumber: PIC10F206T-I/OT; DatasheetVersion: revD, Apr-2007; PackageVersion: C04-028B, 12/2012; PackageReference: SOT-23-OT6; PackageDescription: 6-Lead Plastic Small Outline Transistor, 2.9 x 1.55 mm Body, 0.95 mm Pitch; ComponentLink1Description: Manufacturer URL; ComponentLink1URL: http://www.microchip.com/; ComponentLink2Description: Datasheet; ComponentLink2URL: http://ww1.microchip.com/downloads/en/DeviceDoc/41239D.pdf; ComponentLink3Description: Package Specification; ComponentLink3URL: http://www.microchip.com/stellent/groups/techpub_sg/documents/packagingspec/en012702.pdf
footprint MCHP-SOT-23-OT6_N (SOT23, 6-Leads, Body 2.9x1.55mm, Pitch 0.95mm, IPC Medium Density)
footprint MCHP-SOT-23-OT6_L (SOT23, 6-Leads, Body 2.9x1.55mm, Pitch 0.95mm, IPC High Density)
footprint MCHP-SOT-23-OT6_M (SOT23, 6-Leads, Body 2.9x1.55mm, Pitch 0.95mm, IPC Low Density)
pins: 1 GP0/ICSPDAT/CIN+ (io), 2 VSS (power), 3 GP1/ICSPCLK/CIN (io), 4 GP2/T0CKI/COUT/FOSC4 (io), 5 VDD (power), 6 GP3/~{MCLR}/VPP (io)

## PIC10F220-E/MC
designator U?
High-Performance Microcontroller with 8-bit A/D, 256 (x12-Bit words) Program Memory, 16 Bytes Data Memory, 8-Pin DFN, Extended Temperature; Manufacturer: Microchip; PartNumber: PIC10F220-E/MC; DatasheetVersion: revE, Jun-2007; PackageVersion: C04-123C, 12/2012; PackageReference: DFN-MC8; PackageDescription: 8-Lead Plastic Dual Flat, 2 x 3 mm Body, 0.5 mm Pitch; ComponentLink1Description: Manufacturer URL; ComponentLink1URL: http://www.microchip.com/; ComponentLink2Description: Datasheet; ComponentLink2URL: http://ww1.microchip.com/downloads/en/DeviceDoc/41270E.pdf; ComponentLink3Description: Package Specification; ComponentLink3URL: http://www.microchip.com/stellent/groups/techpub_sg/documents/packagingspec/en012702.pdf
footprint MCHP-DFN-MC8_V (SON, 8-Leads, Body 3x2mm, Pitch 0.5mm, Thermal Pad 1.45x1.75mm)
pins: 1 NC, 2 VDD (power), 3 GP2/T0CKI/FOSC4 (io), 4 GP1/AN1/ICSPCLK (io), 5 GP0/AN0/ICSPDAT (io), 6 NC, 7 VSS (power), 8 GP3/~{MCLR}/VPP (io), 9 Thermal Pad

## PIC10F220-E/OT
designator U?
High-Performance Microcontroller with 8-bit A/D, 256 (x12-Bit words) Program Memory, 16 Bytes Data Memory, 6-Pin SOT-23, Extended Temperature; Manufacturer: Microchip; PartNumber: PIC10F220-E/OT; DatasheetVersion: revE, Jun-2007; PackageVersion: C04-028B, 12/2012; PackageReference: SOT-23-OT6; PackageDescription: 6-Lead Plastic Small Outline Transistor, 2.9 x 1.55 mm Body, 0.95 mm Pitch; ComponentLink1Description: Manufacturer URL; ComponentLink1URL: http://www.microchip.com/; ComponentLink2Description: Datasheet; ComponentLink2URL: http://ww1.microchip.com/downloads/en/DeviceDoc/41270E.pdf; ComponentLink3Description: Package Specification; ComponentLink3URL: http://www.microchip.com/stellent/groups/techpub_sg/documents/packagingspec/en012702.pdf
footprint MCHP-SOT-23-OT6_N (SOT23, 6-Leads, Body 2.9x1.55mm, Pitch 0.95mm, IPC Medium Density)
footprint MCHP-SOT-23-OT6_L (SOT23, 6-Leads, Body 2.9x1.55mm, Pitch 0.95mm, IPC High Density)
footprint MCHP-SOT-23-OT6_M (SOT23, 6-Leads, Body 2.9x1.55mm, Pitch 0.95mm, IPC Low Density)
pins: 1 GP0/AN0/ICSPDAT (io), 2 VSS (power), 3 GP1/AN1/ICSPCLK (io), 4 GP2/T0CKI/FOSC4 (io), 5 VDD (power), 6 GP3/~{MCLR}/VPP (io)

## PIC10F220-E/P
designator U?
High-Performance Microcontroller with 8-bit A/D, 256 (x12-Bit words) Program Memory, 16 Bytes Data Memory, 8-Pin PDIP, Extended Temperature; Manufacturer: Microchip; PartNumber: PIC10F220-E/P; DatasheetVersion: revE, Jun-2007; PackageVersion: revBB, Aug-2009; PackageReference: PDIP300-P8; PackageDescription: 8-Lead Plastic Dual In-Line (P) - 300 mil Body [PDIP]; Code_JEDEC: MS-001; ComponentLink1Description: Manufacturer URL; ComponentLink1URL: http://www.microchip.com/; ComponentLink2Description: Datasheet; ComponentLink2URL: http://ww1.microchip.com/downloads/en/DeviceDoc/41270E.pdf; ComponentLink3Description: Package Specification; ComponentLink3URL: http://www.microchip.com/stellent/groups/techpub_sg/documents/packagingspec/en012702.pdf
footprint PDIP300-P8 (DIP, 8-Leads, Row Spacing 7.62mm, Pitch 2.54mm, Body 9.5x6.6mm)
pins: 1 NC, 2 VDD (power), 3 GP2/T0CKI/FOSC4 (io), 4 GP1/AN1/ICSPCLK (io), 5 GP0/AN0/ICSPDAT (io), 6 NC, 7 VSS (power), 8 GP3/~{MCLR}/VPP (io)

## PIC10F220-I/MC
designator U?
High-Performance Microcontroller with 8-bit A/D, 256 (x12-Bit words) Program Memory, 16 Bytes Data Memory, 8-Pin DFN, Industrial Temperature; Manufacturer: Microchip; PartNumber: PIC10F220-I/MC; DatasheetVersion: revE, Jun-2007; PackageVersion: C04-123C, 12/2012; PackageReference: DFN-MC8; PackageDescription: 8-Lead Plastic Dual Flat, 2 x 3 mm Body, 0.5 mm Pitch; ComponentLink1Description: Manufacturer URL; ComponentLink1URL: http://www.microchip.com/; ComponentLink2Description: Datasheet; ComponentLink2URL: http://ww1.microchip.com/downloads/en/DeviceDoc/41270E.pdf; ComponentLink3Description: Package Specification; ComponentLink3URL: http://www.microchip.com/stellent/groups/techpub_sg/documents/packagingspec/en012702.pdf
footprint MCHP-DFN-MC8_V (SON, 8-Leads, Body 3x2mm, Pitch 0.5mm, Thermal Pad 1.45x1.75mm)
pins: 1 NC, 2 VDD (power), 3 GP2/T0CKI/FOSC4 (io), 4 GP1/AN1/ICSPCLK (io), 5 GP0/AN0/ICSPDAT (io), 6 NC, 7 VSS (power), 8 GP3/~{MCLR}/VPP (io), 9 Thermal Pad

## PIC10F220-I/OT
designator U?
High-Performance Microcontroller with 8-bit A/D, 256 (x12-Bit words) Program Memory, 16 Bytes Data Memory, 6-Pin SOT-23, Industrial Temperature; Manufacturer: Microchip; PartNumber: PIC10F220-I/OT; DatasheetVersion: revE, Jun-2007; PackageVersion: C04-028B, 12/2012; PackageReference: SOT-23-OT6; PackageDescription: 6-Lead Plastic Small Outline Transistor, 2.9 x 1.55 mm Body, 0.95 mm Pitch; ComponentLink1Description: Manufacturer URL; ComponentLink1URL: http://www.microchip.com/; ComponentLink2Description: Datasheet; ComponentLink2URL: http://ww1.microchip.com/downloads/en/DeviceDoc/41270E.pdf; ComponentLink3Description: Package Specification; ComponentLink3URL: http://www.microchip.com/stellent/groups/techpub_sg/documents/packagingspec/en012702.pdf
footprint MCHP-SOT-23-OT6_N (SOT23, 6-Leads, Body 2.9x1.55mm, Pitch 0.95mm, IPC Medium Density)
footprint MCHP-SOT-23-OT6_L (SOT23, 6-Leads, Body 2.9x1.55mm, Pitch 0.95mm, IPC High Density)
footprint MCHP-SOT-23-OT6_M (SOT23, 6-Leads, Body 2.9x1.55mm, Pitch 0.95mm, IPC Low Density)
pins: 1 GP0/AN0/ICSPDAT (io), 2 VSS (power), 3 GP1/AN1/ICSPCLK (io), 4 GP2/T0CKI/FOSC4 (io), 5 VDD (power), 6 GP3/~{MCLR}/VPP (io)

## PIC10F220-I/P
designator U?
High-Performance Microcontroller with 8-bit A/D, 256 (x12-Bit words) Program Memory, 16 Bytes Data Memory, 8-Pin PDIP, Industrial Temperature; Manufacturer: Microchip; PartNumber: PIC10F220-I/P; DatasheetVersion: revE, Jun-2007; PackageVersion: revBB, Aug-2009; PackageReference: PDIP300-P8; PackageDescription: 8-Lead Plastic Dual In-Line (P) - 300 mil Body [PDIP]; Code_JEDEC: MS-001; ComponentLink1Description: Manufacturer URL; ComponentLink1URL: http://www.microchip.com/; ComponentLink2Description: Datasheet; ComponentLink2URL: http://ww1.microchip.com/downloads/en/DeviceDoc/41270E.pdf; ComponentLink3Description: Package Specification; ComponentLink3URL: http://www.microchip.com/stellent/groups/techpub_sg/documents/packagingspec/en012702.pdf
footprint PDIP300-P8 (DIP, 8-Leads, Row Spacing 7.62mm, Pitch 2.54mm, Body 9.5x6.6mm)
pins: 1 NC, 2 VDD (power), 3 GP2/T0CKI/FOSC4 (io), 4 GP1/AN1/ICSPCLK (io), 5 GP0/AN0/ICSPDAT (io), 6 NC, 7 VSS (power), 8 GP3/~{MCLR}/VPP (io)